# EAGLE library part ULQ2004A-Q1 (library Discrete)
Digi-Key Part Number 296-27409-1-ND Manufacturer Texas Instruments Manufacturer Part Number ULQ2003ATPWRQ1 Description IC DARLINGTN TRANS ARRAY 16TSSOP The ULQ2003A and ULQ2004A are high-voltage high-current Darlington transistor arrays. Each consists of seven npn Darlington pairs that feature high-voltage outputs with common-cathode clamp diodes for switching inductive loads. The collector-current rating of a single Darlington pair is 500 mA. The Darlington pairs can be paralleled for higher current capability. Applications include relay drivers, hammer drivers, lamp drivers, display drivers (LED and gas discharge), line drivers, and logic buffers.
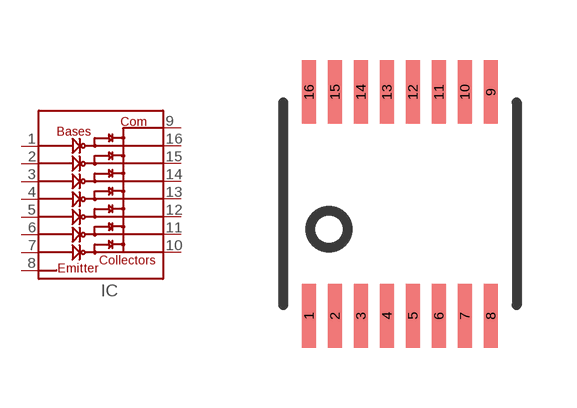
[diagram p16: symbol with the pads of TSSOP-16; footprint TSSOP-16]

Designator prefix IC

## ULQ2004A-Q1-TSSOP-16  [TSSOP-16]
1  1
2  2
3  3
4  4
5  5
6  6
7  7
8  8
9  9
10  10
11  11
12  12
13  13
14  14
15  15
16  16

## Footprint TSSOP-16 (pad centres in mm)
16 TSSOP
smd 0.35 x 1.6: 1 -2.275,-2.8; 2 -1.625,-2.8; 3 -0.975,-2.8; 4 -0.325,-2.8; 5 0.325,-2.8; 6 0.975,-2.8; 7 1.625,-2.8; 8 2.275,-2.8; 9 2.275,2.8; 10 1.625,2.8; 11 0.975,2.8; 12 0.325,2.8; 13 -0.325,2.8; 14 -0.975,2.8; 15 -1.625,2.8; 16 -2.275,2.8